# EAGLE library part MP2338GTL-Z (library MP2338GTL-Z)
Switching Voltage Regulators High-Efficiency,28V,3A,430kHz Synchronous Buck with PG and ext.SS In SOT583 Package Source: Datasheet <https://www.monolithicpower.com/en/documentview/productdocument/index/version/2/document_type/Datasheet/lang/en/sku/MP2338GTL/document_id/9461/>
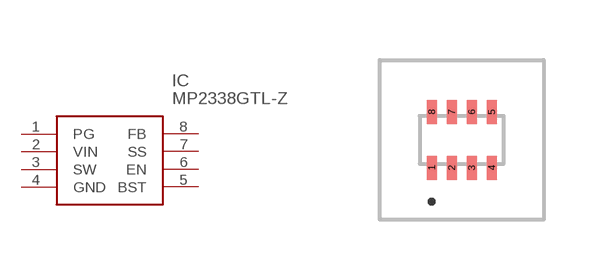
[diagram p0: symbol with the pads of MP2338GTLZ; footprint MP2338GTLZ]

Designator prefix IC

## MP2338GTL-Z (Description: Switching Voltage Regulators High-Efficiency,28V,3A,430kHz Synchronous Buck with PG and ext.SS In SOT583 Package; Height: 0.6mm; Manufacturer_Name: Monolithic Power Systems (MPS); Manufacturer_Part_Number: MP2338GTL-Z; Mouser_Part_Number: 946-MP2338GTL-Z; Mouser_Price-Stock: https://www.mouser.co.uk/ProductDetail/Monolithic-Power-Systems-MPS/MP2338GTL-Z?qs=Li%252BoUPsLEnuizxbD7Jo%252B7w%3D%3D)  [MP2338GTLZ]
1  PG
2  VIN
3  SW
4  GND
5  BST
6  EN
7  SS
8  FB

## Footprint MP2338GTLZ (pad centres in mm)
MP2338GTL-Z-2
smd 0.25 x 0.6: 1 -0.75,-0.7; 2 -0.25,-0.7; 3 0.25,-0.7; 4 0.75,-0.7; 5 0.75,0.7; 6 0.25,0.7; 7 -0.25,0.7; 8 -0.75,0.7